# Altium schematic symbol library VD.SchLib: 38 symbols
Pins are listed as number, name and electrical type; pins without a type are passive.

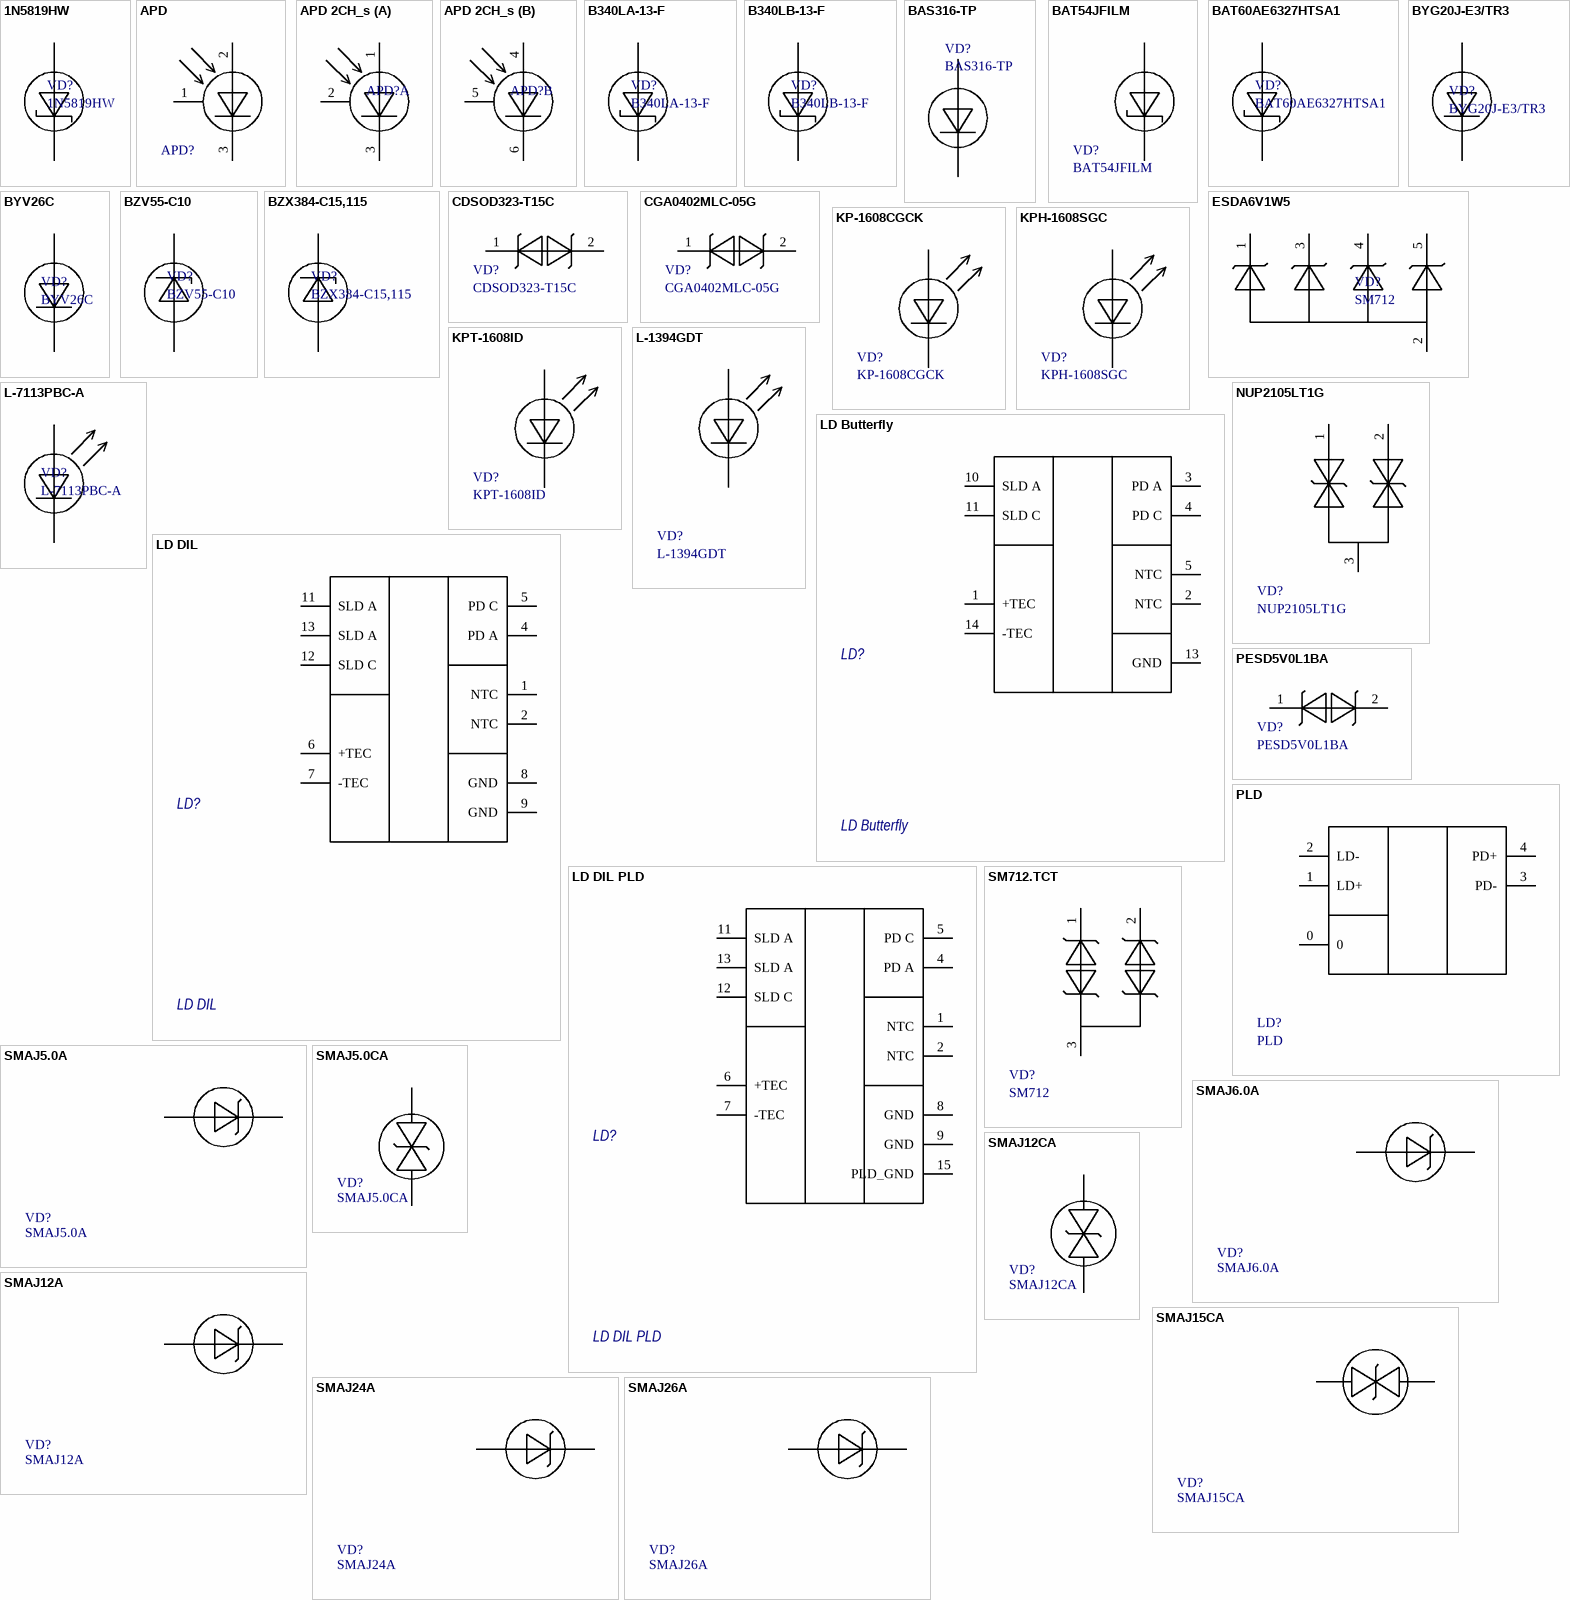
[diagram p0: symbols 1N5819HW to SMAJ26A]

## 1N5819HW
designator VD?
Schottky; Manufacturer: DIODES; Part Number: 1N5819HW; Type: Schottky
footprint SOD-123
pins: 1 CATHODE, 2 ANODE

## APD
designator APD?  (value not drawn)
APD; Type: APD
footprint APD_P
pins: 1, 2, 3

## APD 2CH_s
designator APD?  (value not drawn)
APD; Type: APD
footprint APD_2CH_s
part A pins: 1, 2, 3
part B pins: 4, 5, 6

## B340LA-13-F
designator VD?
Schottky; Manufacturer: Diodes; Part Number: B340LA-13-F; Type: Schottky
footprint DO-214AC
pins: 1, 2

## B340LB-13-F
designator VD?
Schottky; Manufacturer: Diodes; Part Number: B340LB-13-F; Type: Schottky
footprint DO-214AA
pins: 1, 2

## BAS316-TP
designator VD?
High Speed / Switching Diode / 400mW; Manufacturer: MCC; Part Number: BAS316-TP; Type: High Speed
footprint SOD-323
pins: 1 CATHODE, 2 ANODE

## BAT54JFILM
designator VD?
Schottky; Part Number: BAT54JFILM; Type: Schottky
footprint SOD-323 (Footprint not found)
pins: 1, 2

## BAT60AE6327HTSA1
designator VD?
Schottky; Manufacturer: Infineon; Part Number: BAT60AE6327HTSA1; Type: Schottky
footprint SOD-323 (Footprint not found)
pins: 1 CATHODE, 2 ANODE

## BYG20J-E3/TR3
designator VD?
Fast soft-recovery / controlled avalanche rectifiers; Manufacturer: Vishay; Part Number: BYG20J-E3/TR3; Type: Fast
footprint DO-214AC
pins: 1 CATHODE, 2 ANODE

## BYV26C
designator VD?
Fast soft-recovery / controlled avalanche rectifiers; Manufacturer: Vishay; Part Number: BYV26C; Type: Fast
footprint SOD-57 (Footprint not found)
pins: 1 CATHODE, 2 ANODE

## BZV55-C10
designator VD?
Zener, 10В; Manufacturer: Nexperia; Part Number: BZV55-C10; Type: Zener
footprint SOD80C
pins: 1 CATHODE, 2 ANODE

## BZX384-C15,115
designator VD?
Zener, 15В; Manufacturer: Nexperia; Part Number: BZX384-C15,115; Type: Zener
footprint SOD-123
pins: 1 CATHODE, 2 ANODE

## CDSOD323-T15C
designator VD?
TVS 15 В; Manufacturer: Bourns; Part Number: CDSOD323-T15C; Type: TVS
footprint SOD-323 (Footprint not found)
pins: 1, 2

## CGA0402MLC-05G
designator VD?
TVS 5 В; Manufacturer: Bourns; Part Number: CGA0402MLC-05G; Type: TVS
footprint D0402D
pins: 1, 2

## ESDA6V1W5
designator VD?, comment SM712
TVS 3V; Manufacturer: STMicroelectronic; Part Number: ESDA6V1W5; Type: TVS
footprint SOT23-5
pins: 1, 2, 3, 4, 5

## KP-1608CGCK
designator VD?
0603 LED GREEN; Manufacturer: Kingbright; Part Number: KP-1608CGCK; Type: LED
footprint LED_0603
pins: 1, 2

## KPH-1608SGC
designator VD?
0603 LED GREEN 10 ucd; Manufacturer: Kingbright; Part Number: KPH-1608SGC; Type: LED
footprint LED_0603
pins: 1, 2

## KPT-1608ID
designator VD?
0603 LED RED 12 ucd; Manufacturer: Kingbright; Part Number: KPT-1608ID; Type: LED
footprint LED_0603
pins: 1, 2

## L-1394GDT
designator VD?
Green LED DIP; Manufacturer: Kingbright; Part Number: KP-1608CGCK; Type: LED
footprint L-1394GDT
pins: 1, 2

## L-7113PBC-A
designator VD?
Blue LED DIP 5 mm; Manufacturer: Kingbright; Part Number: L-7113PBC-A; Type: LED
footprint LED_5mm_Blue
pins: 1, 2

## LD Butterfly
designator LD?
Type: LD
footprint Butterfly_V1
pins: 1 +TEC, 2 NTC, 3 PD A, 4 PD C, 5 NTC, 10 SLD A, 11 SLD C, 13 GND, 14 -TEC
1 alternate drawing of the same symbol

## LD DIL
designator LD?
Type: LD
footprint Butterfly/DIL
pins: 1 NTC, 2 NTC, 4 PD A, 5 PD C, 6 +TEC, 7 -TEC, 8 GND, 9 GND, 11 SLD A, 12 SLD C, 13 SLD A
1 alternate drawing of the same symbol

## LD DIL PLD
designator LD?
Type: LD
footprint Butterfly/DIL/PLD
pins: 1 NTC, 2 NTC, 4 PD A, 5 PD C, 6 +TEC, 7 -TEC, 8 GND, 9 GND, 11 SLD A, 12 SLD C, 13 SLD A, 15 PLD_GND
1 alternate drawing of the same symbol

## NUP2105LT1G
designator VD?
TVS 24 В; Manufacturer: ON Semiconductor; Part Number: NUP2105LT1G; Type: TVS
footprint SOT-23_3L_ONS
pins: 1, 2, 3

## PESD5V0L1BA
designator VD?
TVS 5 В; Manufacturer: Nexperia; Part Number: PESD5V0L1BA; Type: TVS
footprint SOD-323 (Footprint not found)
pins: 1, 2

## PLD
designator LD?
Type: LD
footprint PLD
pins: 0, 1 LD+, 2 LD-, 3 PD-, 4 PD+

## SM712.TCT
designator VD?, comment SM712
TVS RS485; Manufacturer: Semtech; Part Number: SM712.TCT; Type: TVS
footprint SOT23-3
pins: 1, 2, 3

## SMAJ5.0A
designator VD?
TVS 5 В; Manufacturer: BOURNS; Voltage: 5V; Power: 400W; Part Number: SMAJ5.0A; Type: TVS
footprint DO-214AC
pins: 1 C, 2 A

## SMAJ5.0CA
designator VD?
TVS 5 В; Manufacturer: BOURNS; Voltage: 5V; Power: 400W; Part Number: SMAJ5.0CA; Type: TVS
footprint DO-214AC
pins: 1 C, 2 A

## SMAJ6.0A
designator VD?
TVS 6 В; Manufacturer: BOURNS; Voltage: 6V; Power: 400W; Part Number: SMAJ6.0A; Type: TVS
footprint DO-214AC
pins: 1 C, 2 A

## SMAJ12A
designator VD?
TVS 12 В; Manufacturer: BOURNS; Voltage: 12V; Power: 400W; Part Number: SMAJ12A; Type: TVS
footprint DO-214AC
pins: 1 C, 2 A

## SMAJ12CA
designator VD?
TVS 12 В; Manufacturer: BOURNS; Voltage: 12V; Power: 400W; Part Number: SMAJ12CA; Type: TVS
footprint DO-214AC
pins: 1 C, 2 A

## SMAJ15CA
designator VD?
TVS 15 В; Manufacturer: BOURNS; Voltage: 15V; Power: 400W; Part Number: SMAJ15CA; Type: TVS
footprint DO-214AC
pins: 1 C, 2 A

## SMAJ24A
designator VD?
TVS 24 В; Manufacturer: BOURNS; Voltage: 24V; Power: 400W; Part Number: SMAJ24A; Type: TVS
footprint DO-214AC
pins: 1 C, 2 A

## SMAJ26A
designator VD?
TVS 26 В; Manufacturer: BOURNS; Voltage: 26V; Power: 400W; Part Number: SMAJ26A; Type: TVS
footprint DO-214AC
pins: 1 C, 2 A

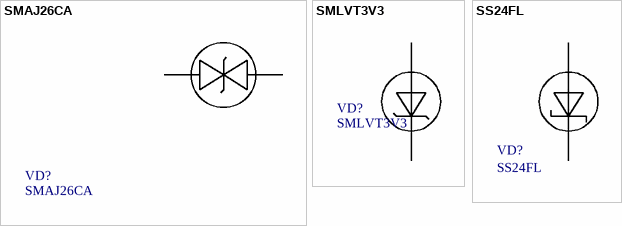
[diagram p1: symbols SMAJ26CA to SS24FL]

## SMAJ26CA
designator VD?
TVS 26 В; Manufacturer: BOURNS; Voltage: 26V; Power: 400W; Part Number: SMAJ26CA; Type: TVS
footprint DO-214AC
pins: 1 C, 2 A

## SMLVT3V3
designator VD?
TVS 3V3 В; Manufacturer: STMicroelectronics; Power: 600W; Part Number: SMLVT3V3; Voltage: 3V3; Type: TVS
footprint DO-214AA
pins: 1 C, 2 A

## SS24FL
designator VD?
Schottky; Manufacturer: ON Semiconductor; Part Number: SS24FL; Type: Schottky
footprint SOD-123F_ONS
pins: 1 CATHODE, 2 ANODE